# Altium schematic symbol library SchematicLib.SchLib: 5 symbols
Pins are listed as number, name and electrical type; pins without a type are passive.

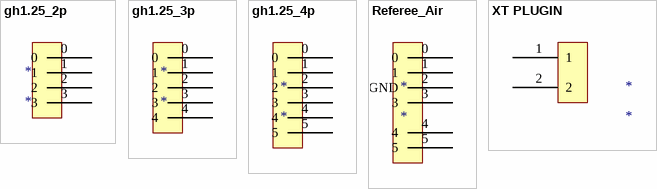
[diagram p0: symbols gh1.25_2p to XT PLUGIN]

## gh1.25_2p
designator *
pins: 0, 1, 2, 3

## gh1.25_3p
designator *
footprint GH1.25-LS-3P (A1257WR-S-3P)
footprint GH1.25-WS-3P (A1257WR-S-3P)
pins: 0, 1, 2, 3, 4

## gh1.25_4p
designator *
footprint GH1.25-LS-4P (A1257WR-S-4P)
footprint GH1.25-WS-4P (A1257WR-S-4P)
pins: 0, 1, 2, 3, 4, 5

## Referee_Air
designator *
footprint M8 Connector
pins: 0, 1, 2 GND, 3, 4, 5

## XT PLUGIN
designator *
footprint XT30-M
pins: 1, 2